# EAGLE library part TTL_RELAY_DPDT (library Anthony-Relay)
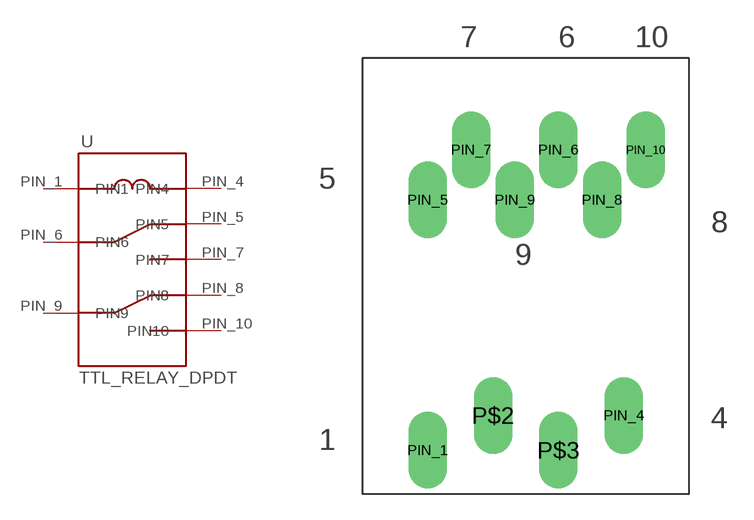
[diagram p3: symbol with the pads of TTL_RELAY_DPDT; footprint TTL_RELAY_DPDT]

Designator prefix -

## TTL_RELAY_DPDT  [TTL_RELAY_DPDT]
PIN_1  PIN1
PIN_4  PIN4
PIN_5  PIN5
PIN_6  PIN6
PIN_7  PIN7
PIN_8  PIN8
PIN_9  PIN9
PIN_10  PIN10

## Footprint TTL_RELAY_DPDT (pad centres in mm)
drill 1.5 long: P$2 -5.08,-8.128; P$3 -1.27,-10.16; PIN_1 -8.89,-10.16; PIN_4 2.54,-8.128; PIN_5 -8.89,4.445; PIN_6 -1.27,7.366; PIN_7 -6.35,7.366; PIN_8 1.27,4.445; PIN_9 -3.81,4.445; PIN_10 3.81,7.366